# EAGLE library part TMS320F28020 (library TMS320F28020)
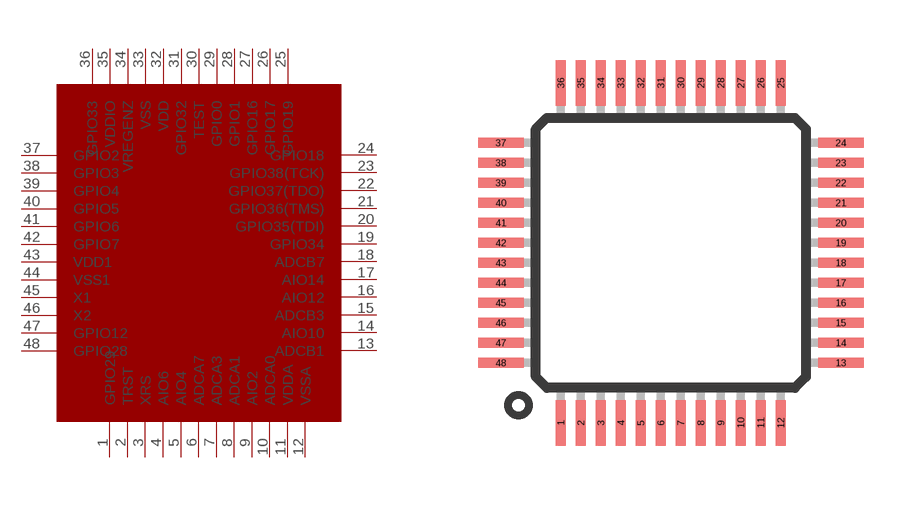
[diagram p0: symbol with the pads of LQFP-48; footprint LQFP-48]

Designator prefix -

## TMS320F28020  [LQFP-48]
1  GPIO29
2  TRST
3  XRS
4  AIO6
5  AIO4
6  ADCA7
7  ADCA3
8  ADCA1
9  AIO2
10  ADCA0
11  VDDA
12  VSSA
13  ADCB1
14  AIO10
15  ADCB3
16  AIO12
17  AIO14
18  ADCB7
19  GPIO34
20  GPIO35(TDI)
21  GPIO36(TMS)
22  GPIO37(TDO)
23  GPIO38(TCK)
24  GPIO18
25  GPIO19
26  GPIO17
27  GPIO16
28  GPIO1
29  GPIO0
30  TEST
31  GPIO32
32  VDD
33  VSS
34  VREGENZ
35  VDDIO
36  GPIO33
37  GPIO2
38  GPIO3
39  GPIO4
40  GPIO5
41  GPIO6
42  GPIO7
43  VDD1
44  VSS1
45  X1
46  X2
47  GPIO12
48  GPIO28

## Footprint LQFP-48 (pad centres in mm)
smd 0.254 x 1.143: 1 -2.75,-4.25; 2 -2.25,-4.25; 3 -1.75,-4.25; 4 -1.25,-4.25; 5 -0.75,-4.25; 6 -0.25,-4.25; 7 0.25,-4.25; 8 0.75,-4.25; 9 1.25,-4.25; 10 1.75,-4.25; 11 2.25,-4.25; 12 2.75,-4.25; 25 2.75,4.25; 26 2.25,4.25; 27 1.75,4.25; 28 1.25,4.25; 29 0.75,4.25; 30 0.25,4.25; 31 -0.25,4.25; 32 -0.75,4.25; 33 -1.25,4.25; 34 -1.75,4.25; 35 -2.25,4.25; 36 -2.75,4.25
smd 1.143 x 0.254: 13 4.25,-2.75; 14 4.25,-2.25; 15 4.25,-1.75; 16 4.25,-1.25; 17 4.25,-0.75; 18 4.25,-0.25; 19 4.25,0.25; 20 4.25,0.75; 21 4.25,1.25; 22 4.25,1.75; 23 4.25,2.25; 24 4.25,2.75; 37 -4.25,2.75; 38 -4.25,2.25; 39 -4.25,1.75; 40 -4.25,1.25; 41 -4.25,0.75; 42 -4.25,0.25; 43 -4.25,-0.25; 44 -4.25,-0.75; 45 -4.25,-1.25; 46 -4.25,-1.75; 47 -4.25,-2.25; 48 -4.25,-2.75